# Altium schematic symbol library PTC 24V 1A Fuse.SchLib: 1 symbol
Pins are listed as number, name and electrical type; pins without a type are passive.

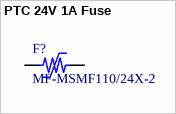
[diagram p0: symbol PTC 24V 1A Fuse]

## PTC 24V 1A Fuse
designator F?, comment MF-MSMF110/24X-2
PTC Resettable Fuse, 24 V, 1.1 A, -40 to 85 degC, 2-Pin SMD, RoHS, Tape and Reel; Manufacturer: Bourns; Max Current Rating: 20A; Power Dissipation: 800mW; Supply Voltage: 24V; Number of Terminals: 2; Max Operating Temperature: 85degC; Case Code (Metric): 4532; Width: 3.41mm; RoHSCompliant: true; Contact Plating: Gold; Package Reference: MF-MSMF110-24X-2; Min Operating Temperature: -40degC; Packaging: TapeandReel; Mount: SurfaceMount; Case Code (Imperial): 1812; Length: 4.83mm; Height: 1.6mm; Case/Package: 1812; Datasheet URL: http://www.bourns.com/docs/Product-Datasheets/mfmsmf.pdf; Datasheet Version: Rev. AG, 08/2016; Voltage Rating: 24V; REACH SVHC: NoSVHC; Voltage Rating (DC): 24V; Radiation Hardening: No; Package Description: 2-Pin Surface Mount Device, Body 4.6 x 3.24 mm; Manufacturer URL: http://www.bourns.com/
footprint BOUR-MF-MSMF110-24X-2_V (Chip Fuse, 2-Leads, Body 4.6x3.24mm)
pins: 1, 2